# Altium schematic symbol library JW2SN-DC12-Relay.SchLib: 1 symbol
Pins are listed as number, name and electrical type; pins without a type are passive.

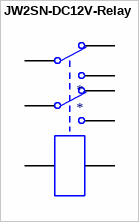
[diagram p0: symbol JW2SN-DC12V-Relay]

## JW2SN-DC12V-Relay
designator *
pins: 1 COIL1, 2 N.C1, 3 COM1, 4 N.O1, 5 N.O2, 6 COM2, 7 N.C2, 8 COIL2